# Altium schematic symbol library LITHIUM3VCELL.SCHLIB: 1 symbol
Pins are listed as number, name and electrical type; pins without a type are passive.

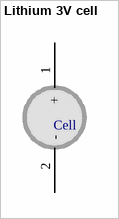
[diagram p0: symbol Lithium 3V cell]

## Lithium 3V cell
designator Cell
3V Lithium button cell with solder tags - CR2430
footprint Cell (Cell outline. Note: can easily fit components underneath)
pins: 1 + (power), 2 - (power)